# Altium integrated library WE-PD4 SMD Power Inductor.IntLib: 96 symbols
Pins are listed as number, name and electrical type; pins without a type are passive.

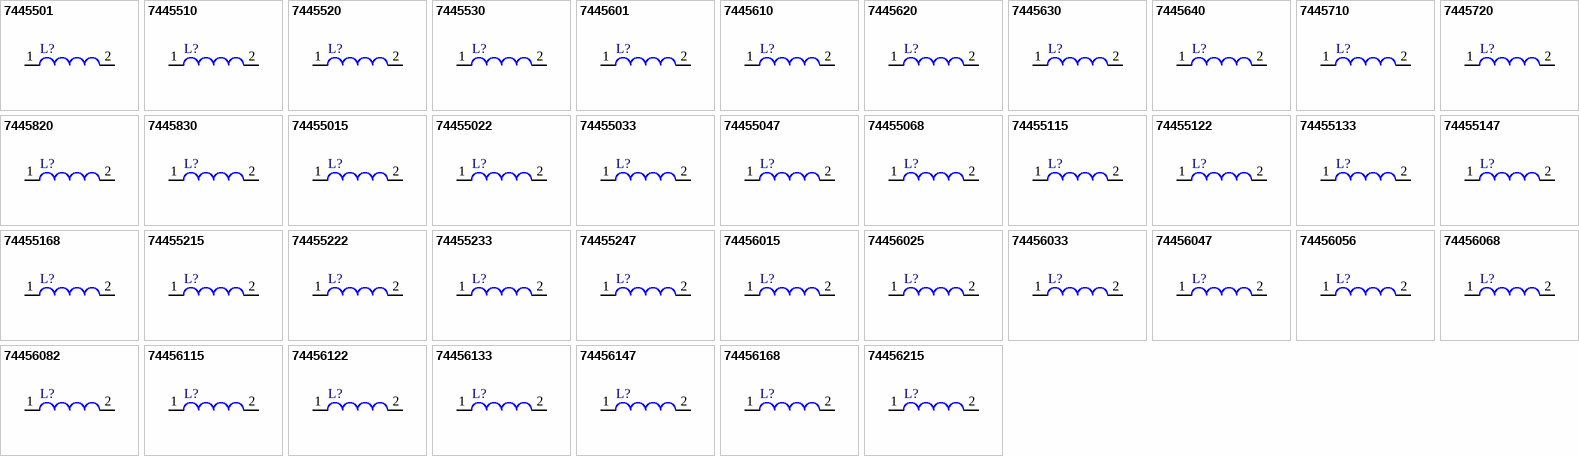
[diagram p0: symbols 7445501 to 74456215]

## 7445501
designator L?
SMD-Power Inductor WE-PD4, L = 1.00 µH; PartNumber: 7445501; Inductance: 1.00 µH; DatasheetVersion: ver 2, Feb-2009; PackageReference: WE-PD4-S; PackageDescription: SMD Inductor, 2-Leads, Body 6.6 x 4.45 mm; ComponentLink1Description: Manufacturer URL; ComponentLink1URL: http://www.we-online.com; ComponentLink2Description: Datasheet; ComponentLink2URL: http://www.we-online.de/katalog/media/pdf/7445501.pdf
footprint WE-PD4-S (SMD Inductor, 2-Leads, Body 6.6x4.45x2.92 mm)
pins: 1, 2

## 7445510
designator L?
SMD-Power Inductor WE-PD4, L = 10.0 µH; PartNumber: 7445510; Inductance: 10.0 µH; DatasheetVersion: ver 2, Feb-2009; PackageReference: WE-PD4-S; PackageDescription: SMD Inductor, 2-Leads, Body 6.6 x 4.45 mm; ComponentLink1Description: Manufacturer URL; ComponentLink1URL: http://www.we-online.com; ComponentLink2Description: Datasheet; ComponentLink2URL: http://www.we-online.de/katalog/media/pdf/7445510.pdf
footprint WE-PD4-S (SMD Inductor, 2-Leads, Body 6.6x4.45x2.92 mm)
pins: 1, 2

## 7445520
designator L?
SMD-Power Inductor WE-PD4, L = 100 µH; PartNumber: 7445520; Inductance: 100 µH; DatasheetVersion: ver 2, Feb-2009; PackageReference: WE-PD4-S; PackageDescription: SMD Inductor, 2-Leads, Body 6.6 x 4.45 mm; ComponentLink1Description: Manufacturer URL; ComponentLink1URL: http://www.we-online.com; ComponentLink2Description: Datasheet; ComponentLink2URL: http://www.we-online.de/katalog/media/pdf/7445520.pdf
footprint WE-PD4-S (SMD Inductor, 2-Leads, Body 6.6x4.45x2.92 mm)
pins: 1, 2

## 7445530
designator L?
SMD-Power Inductor WE-PD4, L = 1000 µH; PartNumber: 7445530; Inductance: 1000 µH; DatasheetVersion: ver 2, Feb-2009; PackageReference: WE-PD4-S; PackageDescription: SMD Inductor, 2-Leads, Body 6.6 x 4.45 mm; ComponentLink1Description: Manufacturer URL; ComponentLink1URL: http://www.we-online.com; ComponentLink2Description: Datasheet; ComponentLink2URL: http://www.we-online.de/katalog/media/pdf/7445530.pdf
footprint WE-PD4-S (SMD Inductor, 2-Leads, Body 6.6x4.45x2.92 mm)
pins: 1, 2

## 7445601
designator L?
SMD-Power Inductor WE-PD4, L = 1.00 µH; PartNumber: 7445601; Inductance: 1.00 µH; DatasheetVersion: ver 2, Sep-2006; PackageReference: WE-PD4-L; PackageDescription: SMD Inductor, 2-Leads, Body 12.7 x 10.0 mm; ComponentLink1Description: Manufacturer URL; ComponentLink1URL: http://www.we-online.com; ComponentLink2Description: Datasheet; ComponentLink2URL: http://www.we-online.de/katalog/media/pdf/7445601.pdf
footprint WE-PD4-L (SMD Inductor, 2-Leads, Body 12.7x10.0x5.3 mm)
pins: 1, 2

## 7445610
designator L?
SMD-Power Inductor WE-PD4, L = 10.0 µH; PartNumber: 7445610; Inductance: 10.0 µH; DatasheetVersion: ver 2, Sep-2006; PackageReference: WE-PD4-L; PackageDescription: SMD Inductor, 2-Leads, Body 12.7 x 10.0 mm; ComponentLink1Description: Manufacturer URL; ComponentLink1URL: http://www.we-online.com; ComponentLink2Description: Datasheet; ComponentLink2URL: http://www.we-online.de/katalog/media/pdf/7445610.pdf
footprint WE-PD4-L (SMD Inductor, 2-Leads, Body 12.7x10.0x5.3 mm)
pins: 1, 2

## 7445620
designator L?
SMD-Power Inductor WE-PD4, L = 100 µH; PartNumber: 7445620; Inductance: 100 µH; DatasheetVersion: ver 2, Sep-2006; PackageReference: WE-PD4-L; PackageDescription: SMD Inductor, 2-Leads, Body 12.7 x 10.0 mm; ComponentLink1Description: Manufacturer URL; ComponentLink1URL: http://www.we-online.com; ComponentLink2Description: Datasheet; ComponentLink2URL: http://www.we-online.de/katalog/media/pdf/7445620.pdf
footprint WE-PD4-L (SMD Inductor, 2-Leads, Body 12.7x10.0x5.3 mm)
pins: 1, 2

## 7445630
designator L?
SMD-Power Inductor WE-PD4, L = 1000 µH; PartNumber: 7445630; Inductance: 1000 µH; DatasheetVersion: ver 2, Sep-2006; PackageReference: WE-PD4-L; PackageDescription: SMD Inductor, 2-Leads, Body 12.7 x 10.0 mm; ComponentLink1Description: Manufacturer URL; ComponentLink1URL: http://www.we-online.com; ComponentLink2Description: Datasheet; ComponentLink2URL: http://www.we-online.de/katalog/media/pdf/7445630.pdf
footprint WE-PD4-L (SMD Inductor, 2-Leads, Body 12.7x10.0x5.3 mm)
pins: 1, 2

## 7445640
designator L?
SMD-Power Inductor WE-PD4, L = 10.0 mH; PartNumber: 7445640; Inductance: 10.0 mH; DatasheetVersion: ver 2, Sep-2006; PackageReference: WE-PD4-L; PackageDescription: SMD Inductor, 2-Leads, Body 12.7 x 10.0 mm; ComponentLink1Description: Manufacturer URL; ComponentLink1URL: http://www.we-online.com; ComponentLink2Description: Datasheet; ComponentLink2URL: http://www.we-online.de/katalog/media/pdf/7445640.pdf
footprint WE-PD4-L (SMD Inductor, 2-Leads, Body 12.7x10.0x5.3 mm)
pins: 1, 2

## 7445710
designator L?
SMD-Power Inductor WE-PD4, L = 10.0 µH; PartNumber: 7445710; Inductance: 10.0 µH; DatasheetVersion: ver 1, Oct-2004; PackageReference: WE-PD4-XL; PackageDescription: SMD Inductor, 2-Leads, Body 22.0 x 15.0 mm; ComponentLink1Description: Manufacturer URL; ComponentLink1URL: http://www.we-online.com; ComponentLink2Description: Datasheet; ComponentLink2URL: http://www.we-online.de/katalog/media/pdf/7445710.pdf
footprint WE-PD4-XL (SMD Inductor, 2-Leads, Body 22.0x15.0x7.8 mm)
pins: 1, 2

## 7445720
designator L?
SMD-Power Inductor WE-PD4, L = 100 µH; PartNumber: 7445720; Inductance: 100 µH; DatasheetVersion: ver 1, Oct-2004; PackageReference: WE-PD4-XL; PackageDescription: SMD Inductor, 2-Leads, Body 22.0 x 15.0 mm; ComponentLink1Description: Manufacturer URL; ComponentLink1URL: http://www.we-online.com; ComponentLink2Description: Datasheet; ComponentLink2URL: http://www.we-online.de/katalog/media/pdf/7445720.pdf
footprint WE-PD4-XL (SMD Inductor, 2-Leads, Body 22.0x15.0x7.8 mm)
pins: 1, 2

## 7445820
designator L?
SMD-Power Inductor WE-PD4, L = 100 µH; PartNumber: 7445820; Inductance: 100 µH; DatasheetVersion: ver 1, Oct-2004; PackageReference: WE-PD4-X; PackageDescription: SMD Inductor, 2-Leads, Body 18.54 x 15.24 mm; ComponentLink1Description: Manufacturer URL; ComponentLink1URL: http://www.we-online.com; ComponentLink2Description: Datasheet; ComponentLink2URL: http://www.we-online.de/katalog/media/pdf/7445820.pdf
footprint WE-PD4-X (SMD Inductor, 2-Leads, Body 18.54x15.24x7.11 mm)
pins: 1, 2

## 7445830
designator L?
SMD-Power Inductor WE-PD4, L = 1000 µH; PartNumber: 7445830; Inductance: 1000 µH; DatasheetVersion: ver 1, Oct-2004; PackageReference: WE-PD4-X; PackageDescription: SMD Inductor, 2-Leads, Body 18.54 x 15.24 mm; ComponentLink1Description: Manufacturer URL; ComponentLink1URL: http://www.we-online.com; ComponentLink2Description: Datasheet; ComponentLink2URL: http://www.we-online.de/katalog/media/pdf/7445830.pdf
footprint WE-PD4-X (SMD Inductor, 2-Leads, Body 18.54x15.24x7.11 mm)
pins: 1, 2

## 74455015
designator L?
SMD-Power Inductor WE-PD4, L = 1.50 µH; PartNumber: 74455015; Inductance: 1.50 µH; DatasheetVersion: ver 2, Feb-2009; PackageReference: WE-PD4-S; PackageDescription: SMD Inductor, 2-Leads, Body 6.6 x 4.45 mm; ComponentLink1Description: Manufacturer URL; ComponentLink1URL: http://www.we-online.com; ComponentLink2Description: Datasheet; ComponentLink2URL: http://www.we-online.de/katalog/media/pdf/74455015.pdf
footprint WE-PD4-S (SMD Inductor, 2-Leads, Body 6.6x4.45x2.92 mm)
pins: 1, 2

## 74455022
designator L?
SMD-Power Inductor WE-PD4, L = 2.20 µH; PartNumber: 74455022; Inductance: 2.20 µH; DatasheetVersion: ver 2, Feb-2009; PackageReference: WE-PD4-S; PackageDescription: SMD Inductor, 2-Leads, Body 6.6 x 4.45 mm; ComponentLink1Description: Manufacturer URL; ComponentLink1URL: http://www.we-online.com; ComponentLink2Description: Datasheet; ComponentLink2URL: http://www.we-online.de/katalog/media/pdf/74455022.pdf
footprint WE-PD4-S (SMD Inductor, 2-Leads, Body 6.6x4.45x2.92 mm)
pins: 1, 2

## 74455033
designator L?
SMD-Power Inductor WE-PD4, L = 3.30 µH; PartNumber: 74455033; Inductance: 3.30 µH; DatasheetVersion: ver 2, Feb-2009; PackageReference: WE-PD4-S; PackageDescription: SMD Inductor, 2-Leads, Body 6.6 x 4.45 mm; ComponentLink1Description: Manufacturer URL; ComponentLink1URL: http://www.we-online.com; ComponentLink2Description: Datasheet; ComponentLink2URL: http://www.we-online.de/katalog/media/pdf/74455033.pdf
footprint WE-PD4-S (SMD Inductor, 2-Leads, Body 6.6x4.45x2.92 mm)
pins: 1, 2

## 74455047
designator L?
SMD-Power Inductor WE-PD4, L = 4.70 µH; PartNumber: 74455047; Inductance: 4.70 µH; DatasheetVersion: ver 2, Feb-2009; PackageReference: WE-PD4-S; PackageDescription: SMD Inductor, 2-Leads, Body 6.6 x 4.45 mm; ComponentLink1Description: Manufacturer URL; ComponentLink1URL: http://www.we-online.com; ComponentLink2Description: Datasheet; ComponentLink2URL: http://www.we-online.de/katalog/media/pdf/74455047.pdf
footprint WE-PD4-S (SMD Inductor, 2-Leads, Body 6.6x4.45x2.92 mm)
pins: 1, 2

## 74455068
designator L?
SMD-Power Inductor WE-PD4, L = 6.80 µH; PartNumber: 74455068; Inductance: 6.80 µH; DatasheetVersion: ver 2, Feb-2009; PackageReference: WE-PD4-S; PackageDescription: SMD Inductor, 2-Leads, Body 6.6 x 4.45 mm; ComponentLink1Description: Manufacturer URL; ComponentLink1URL: http://www.we-online.com; ComponentLink2Description: Datasheet; ComponentLink2URL: http://www.we-online.de/katalog/media/pdf/74455068.pdf
footprint WE-PD4-S (SMD Inductor, 2-Leads, Body 6.6x4.45x2.92 mm)
pins: 1, 2

## 74455115
designator L?
SMD-Power Inductor WE-PD4, L = 15.0 µH; PartNumber: 74455115; Inductance: 15.0 µH; DatasheetVersion: ver 2, Feb-2009; PackageReference: WE-PD4-S; PackageDescription: SMD Inductor, 2-Leads, Body 6.6 x 4.45 mm; ComponentLink1Description: Manufacturer URL; ComponentLink1URL: http://www.we-online.com; ComponentLink2Description: Datasheet; ComponentLink2URL: http://www.we-online.de/katalog/media/pdf/74455115.pdf
footprint WE-PD4-S (SMD Inductor, 2-Leads, Body 6.6x4.45x2.92 mm)
pins: 1, 2

## 74455122
designator L?
SMD-Power Inductor WE-PD4, L = 22.0 µH; PartNumber: 74455122; Inductance: 22.0 µH; DatasheetVersion: ver 2, Feb-2009; PackageReference: WE-PD4-S; PackageDescription: SMD Inductor, 2-Leads, Body 6.6 x 4.45 mm; ComponentLink1Description: Manufacturer URL; ComponentLink1URL: http://www.we-online.com; ComponentLink2Description: Datasheet; ComponentLink2URL: http://www.we-online.de/katalog/media/pdf/74455122.pdf
footprint WE-PD4-S (SMD Inductor, 2-Leads, Body 6.6x4.45x2.92 mm)
pins: 1, 2

## 74455133
designator L?
SMD-Power Inductor WE-PD4, L = 33.0 µH; PartNumber: 74455133; Inductance: 33.0 µH; DatasheetVersion: ver 2, Feb-2009; PackageReference: WE-PD4-S; PackageDescription: SMD Inductor, 2-Leads, Body 6.6 x 4.45 mm; ComponentLink1Description: Manufacturer URL; ComponentLink1URL: http://www.we-online.com; ComponentLink2Description: Datasheet; ComponentLink2URL: http://www.we-online.de/katalog/media/pdf/74455133.pdf
footprint WE-PD4-S (SMD Inductor, 2-Leads, Body 6.6x4.45x2.92 mm)
pins: 1, 2

## 74455147
designator L?
SMD-Power Inductor WE-PD4, L = 47.0 µH; PartNumber: 74455147; Inductance: 47.0 µH; DatasheetVersion: ver 2, Feb-2009; PackageReference: WE-PD4-S; PackageDescription: SMD Inductor, 2-Leads, Body 6.6 x 4.45 mm; ComponentLink1Description: Manufacturer URL; ComponentLink1URL: http://www.we-online.com; ComponentLink2Description: Datasheet; ComponentLink2URL: http://www.we-online.de/katalog/media/pdf/74455147.pdf
footprint WE-PD4-S (SMD Inductor, 2-Leads, Body 6.6x4.45x2.92 mm)
pins: 1, 2

## 74455168
designator L?
SMD-Power Inductor WE-PD4, L = 68.0 µH; PartNumber: 74455168; Inductance: 68.0 µH; DatasheetVersion: ver 2, Feb-2009; PackageReference: WE-PD4-S; PackageDescription: SMD Inductor, 2-Leads, Body 6.6 x 4.45 mm; ComponentLink1Description: Manufacturer URL; ComponentLink1URL: http://www.we-online.com; ComponentLink2Description: Datasheet; ComponentLink2URL: http://www.we-online.de/katalog/media/pdf/74455168.pdf
footprint WE-PD4-S (SMD Inductor, 2-Leads, Body 6.6x4.45x2.92 mm)
pins: 1, 2

## 74455215
designator L?
SMD-Power Inductor WE-PD4, L = 150 µH; PartNumber: 74455215; Inductance: 150 µH; DatasheetVersion: ver 2, Feb-2009; PackageReference: WE-PD4-S; PackageDescription: SMD Inductor, 2-Leads, Body 6.6 x 4.45 mm; ComponentLink1Description: Manufacturer URL; ComponentLink1URL: http://www.we-online.com; ComponentLink2Description: Datasheet; ComponentLink2URL: http://www.we-online.de/katalog/media/pdf/74455215.pdf
footprint WE-PD4-S (SMD Inductor, 2-Leads, Body 6.6x4.45x2.92 mm)
pins: 1, 2

## 74455222
designator L?
SMD-Power Inductor WE-PD4, L = 220 µH; PartNumber: 74455222; Inductance: 220 µH; DatasheetVersion: ver 2, Feb-2009; PackageReference: WE-PD4-S; PackageDescription: SMD Inductor, 2-Leads, Body 6.6 x 4.45 mm; ComponentLink1Description: Manufacturer URL; ComponentLink1URL: http://www.we-online.com; ComponentLink2Description: Datasheet; ComponentLink2URL: http://www.we-online.de/katalog/media/pdf/74455222.pdf
footprint WE-PD4-S (SMD Inductor, 2-Leads, Body 6.6x4.45x2.92 mm)
pins: 1, 2

## 74455233
designator L?
SMD-Power Inductor WE-PD4, L = 330 µH; PartNumber: 74455233; Inductance: 330 µH; DatasheetVersion: ver 2, Feb-2009; PackageReference: WE-PD4-S; PackageDescription: SMD Inductor, 2-Leads, Body 6.6 x 4.45 mm; ComponentLink1Description: Manufacturer URL; ComponentLink1URL: http://www.we-online.com; ComponentLink2Description: Datasheet; ComponentLink2URL: http://www.we-online.de/katalog/media/pdf/74455233.pdf
footprint WE-PD4-S (SMD Inductor, 2-Leads, Body 6.6x4.45x2.92 mm)
pins: 1, 2

## 74455247
designator L?
SMD-Power Inductor WE-PD4, L = 470 µH; PartNumber: 74455247; Inductance: 470 µH; DatasheetVersion: ver 2, Feb-2009; PackageReference: WE-PD4-S; PackageDescription: SMD Inductor, 2-Leads, Body 6.6 x 4.45 mm; ComponentLink1Description: Manufacturer URL; ComponentLink1URL: http://www.we-online.com; ComponentLink2Description: Datasheet; ComponentLink2URL: http://www.we-online.de/katalog/media/pdf/74455247.pdf
footprint WE-PD4-S (SMD Inductor, 2-Leads, Body 6.6x4.45x2.92 mm)
pins: 1, 2

## 74456015
designator L?
SMD-Power Inductor WE-PD4, L = 1.50 µH; PartNumber: 74456015; Inductance: 1.50 µH; DatasheetVersion: ver 2, Sep-2006; PackageReference: WE-PD4-L; PackageDescription: SMD Inductor, 2-Leads, Body 12.7 x 10.0 mm; ComponentLink1Description: Manufacturer URL; ComponentLink1URL: http://www.we-online.com; ComponentLink2Description: Datasheet; ComponentLink2URL: http://www.we-online.de/katalog/media/pdf/74456015.pdf
footprint WE-PD4-L (SMD Inductor, 2-Leads, Body 12.7x10.0x5.3 mm)
pins: 1, 2

## 74456025
designator L?
SMD-Power Inductor WE-PD4, L = 2.50 µH; PartNumber: 74456025; Inductance: 2.50 µH; DatasheetVersion: ver 2, Sep-2006; PackageReference: WE-PD4-L; PackageDescription: SMD Inductor, 2-Leads, Body 12.7 x 10.0 mm; ComponentLink1Description: Manufacturer URL; ComponentLink1URL: http://www.we-online.com; ComponentLink2Description: Datasheet; ComponentLink2URL: http://www.we-online.de/katalog/media/pdf/74456025.pdf
footprint WE-PD4-L (SMD Inductor, 2-Leads, Body 12.7x10.0x5.3 mm)
pins: 1, 2

## 74456033
designator L?
SMD-Power Inductor WE-PD4, L = 3.30 µH; PartNumber: 74456033; Inductance: 3.30 µH; DatasheetVersion: ver 2, Sep-2006; PackageReference: WE-PD4-L; PackageDescription: SMD Inductor, 2-Leads, Body 12.7 x 10.0 mm; ComponentLink1Description: Manufacturer URL; ComponentLink1URL: http://www.we-online.com; ComponentLink2Description: Datasheet; ComponentLink2URL: http://www.we-online.de/katalog/media/pdf/74456033.pdf
footprint WE-PD4-L (SMD Inductor, 2-Leads, Body 12.7x10.0x5.3 mm)
pins: 1, 2

## 74456047
designator L?
SMD-Power Inductor WE-PD4, L = 4.70 µH; PartNumber: 74456047; Inductance: 4.70 µH; DatasheetVersion: ver 2, Sep-2006; PackageReference: WE-PD4-L; PackageDescription: SMD Inductor, 2-Leads, Body 12.7 x 10.0 mm; ComponentLink1Description: Manufacturer URL; ComponentLink1URL: http://www.we-online.com; ComponentLink2Description: Datasheet; ComponentLink2URL: http://www.we-online.de/katalog/media/pdf/74456047.pdf
footprint WE-PD4-L (SMD Inductor, 2-Leads, Body 12.7x10.0x5.3 mm)
pins: 1, 2

## 74456056
designator L?
SMD-Power Inductor WE-PD4, L = 5.60 µH; PartNumber: 74456056; Inductance: 5.60 µH; DatasheetVersion: ver 2, Sep-2006; PackageReference: WE-PD4-L; PackageDescription: SMD Inductor, 2-Leads, Body 12.7 x 10.0 mm; ComponentLink1Description: Manufacturer URL; ComponentLink1URL: http://www.we-online.com; ComponentLink2Description: Datasheet; ComponentLink2URL: http://www.we-online.de/katalog/media/pdf/74456056.pdf
footprint WE-PD4-L (SMD Inductor, 2-Leads, Body 12.7x10.0x5.3 mm)
pins: 1, 2

## 74456068
designator L?
SMD-Power Inductor WE-PD4, L = 6.80 µH; PartNumber: 74456068; Inductance: 6.80 µH; DatasheetVersion: ver 2, Sep-2006; PackageReference: WE-PD4-L; PackageDescription: SMD Inductor, 2-Leads, Body 12.7 x 10.0 mm; ComponentLink1Description: Manufacturer URL; ComponentLink1URL: http://www.we-online.com; ComponentLink2Description: Datasheet; ComponentLink2URL: http://www.we-online.de/katalog/media/pdf/74456068.pdf
footprint WE-PD4-L (SMD Inductor, 2-Leads, Body 12.7x10.0x5.3 mm)
pins: 1, 2

## 74456082
designator L?
SMD-Power Inductor WE-PD4, L = 8.20 µH; PartNumber: 74456082; Inductance: 8.20 µH; DatasheetVersion: ver 2, Sep-2006; PackageReference: WE-PD4-L; PackageDescription: SMD Inductor, 2-Leads, Body 12.7 x 10.0 mm; ComponentLink1Description: Manufacturer URL; ComponentLink1URL: http://www.we-online.com; ComponentLink2Description: Datasheet; ComponentLink2URL: http://www.we-online.de/katalog/media/pdf/74456082.pdf
footprint WE-PD4-L (SMD Inductor, 2-Leads, Body 12.7x10.0x5.3 mm)
pins: 1, 2

## 74456115
designator L?
SMD-Power Inductor WE-PD4, L = 15.0 µH; PartNumber: 74456115; Inductance: 15.0 µH; DatasheetVersion: ver 2, Sep-2006; PackageReference: WE-PD4-L; PackageDescription: SMD Inductor, 2-Leads, Body 12.7 x 10.0 mm; ComponentLink1Description: Manufacturer URL; ComponentLink1URL: http://www.we-online.com; ComponentLink2Description: Datasheet; ComponentLink2URL: http://www.we-online.de/katalog/media/pdf/74456115.pdf
footprint WE-PD4-L (SMD Inductor, 2-Leads, Body 12.7x10.0x5.3 mm)
pins: 1, 2

## 74456122
designator L?
SMD-Power Inductor WE-PD4, L = 22.0 µH; PartNumber: 74456122; Inductance: 22.0 µH; DatasheetVersion: ver 2, Sep-2006; PackageReference: WE-PD4-L; PackageDescription: SMD Inductor, 2-Leads, Body 12.7 x 10.0 mm; ComponentLink1Description: Manufacturer URL; ComponentLink1URL: http://www.we-online.com; ComponentLink2Description: Datasheet; ComponentLink2URL: http://www.we-online.de/katalog/media/pdf/74456122.pdf
footprint WE-PD4-L (SMD Inductor, 2-Leads, Body 12.7x10.0x5.3 mm)
pins: 1, 2

## 74456133
designator L?
SMD-Power Inductor WE-PD4, L = 33.0 µH; PartNumber: 74456133; Inductance: 33.0 µH; DatasheetVersion: ver 2, Sep-2006; PackageReference: WE-PD4-L; PackageDescription: SMD Inductor, 2-Leads, Body 12.7 x 10.0 mm; ComponentLink1Description: Manufacturer URL; ComponentLink1URL: http://www.we-online.com; ComponentLink2Description: Datasheet; ComponentLink2URL: http://www.we-online.de/katalog/media/pdf/74456133.pdf
footprint WE-PD4-L (SMD Inductor, 2-Leads, Body 12.7x10.0x5.3 mm)
pins: 1, 2

## 74456147
designator L?
SMD-Power Inductor WE-PD4, L = 47.0 µH; PartNumber: 74456147; Inductance: 47.0 µH; DatasheetVersion: ver 2, Sep-2006; PackageReference: WE-PD4-L; PackageDescription: SMD Inductor, 2-Leads, Body 12.7 x 10.0 mm; ComponentLink1Description: Manufacturer URL; ComponentLink1URL: http://www.we-online.com; ComponentLink2Description: Datasheet; ComponentLink2URL: http://www.we-online.de/katalog/media/pdf/74456147.pdf
footprint WE-PD4-L (SMD Inductor, 2-Leads, Body 12.7x10.0x5.3 mm)
pins: 1, 2

## 74456168
designator L?
SMD-Power Inductor WE-PD4, L = 68.0 µH; PartNumber: 74456168; Inductance: 68.0 µH; DatasheetVersion: ver 2, Sep-2006; PackageReference: WE-PD4-L; PackageDescription: SMD Inductor, 2-Leads, Body 12.7 x 10.0 mm; ComponentLink1Description: Manufacturer URL; ComponentLink1URL: http://www.we-online.com; ComponentLink2Description: Datasheet; ComponentLink2URL: http://www.we-online.de/katalog/media/pdf/74456168.pdf
footprint WE-PD4-L (SMD Inductor, 2-Leads, Body 12.7x10.0x5.3 mm)
pins: 1, 2

## 74456215
designator L?
SMD-Power Inductor WE-PD4, L = 150 µH; PartNumber: 74456215; Inductance: 150 µH; DatasheetVersion: ver 2, Sep-2006; PackageReference: WE-PD4-L; PackageDescription: SMD Inductor, 2-Leads, Body 12.7 x 10.0 mm; ComponentLink1Description: Manufacturer URL; ComponentLink1URL: http://www.we-online.com; ComponentLink2Description: Datasheet; ComponentLink2URL: http://www.we-online.de/katalog/media/pdf/74456215.pdf
footprint WE-PD4-L (SMD Inductor, 2-Leads, Body 12.7x10.0x5.3 mm)
pins: 1, 2

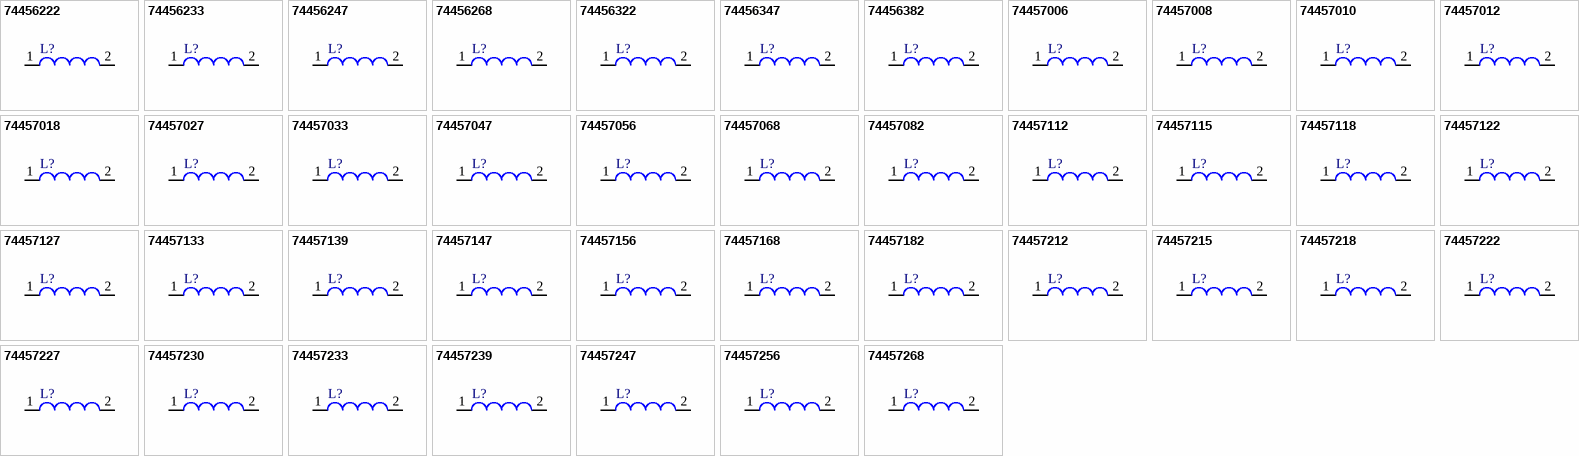
[diagram p1: symbols 74456222 to 74457268]

## 74456222
designator L?
SMD-Power Inductor WE-PD4, L = 220 µH; PartNumber: 74456222; Inductance: 220 µH; DatasheetVersion: ver 2, Sep-2006; PackageReference: WE-PD4-L; PackageDescription: SMD Inductor, 2-Leads, Body 12.7 x 10.0 mm; ComponentLink1Description: Manufacturer URL; ComponentLink1URL: http://www.we-online.com; ComponentLink2Description: Datasheet; ComponentLink2URL: http://www.we-online.de/katalog/media/pdf/74456222.pdf
footprint WE-PD4-L (SMD Inductor, 2-Leads, Body 12.7x10.0x5.3 mm)
pins: 1, 2

## 74456233
designator L?
SMD-Power Inductor WE-PD4, L = 330 µH; PartNumber: 74456233; Inductance: 330 µH; DatasheetVersion: ver 2, Sep-2006; PackageReference: WE-PD4-L; PackageDescription: SMD Inductor, 2-Leads, Body 12.7 x 10.0 mm; ComponentLink1Description: Manufacturer URL; ComponentLink1URL: http://www.we-online.com; ComponentLink2Description: Datasheet; ComponentLink2URL: http://www.we-online.de/katalog/media/pdf/74456233.pdf
footprint WE-PD4-L (SMD Inductor, 2-Leads, Body 12.7x10.0x5.3 mm)
pins: 1, 2

## 74456247
designator L?
SMD-Power Inductor WE-PD4, L = 470 µH; PartNumber: 74456247; Inductance: 470 µH; DatasheetVersion: ver 2, Sep-2006; PackageReference: WE-PD4-L; PackageDescription: SMD Inductor, 2-Leads, Body 12.7 x 10.0 mm; ComponentLink1Description: Manufacturer URL; ComponentLink1URL: http://www.we-online.com; ComponentLink2Description: Datasheet; ComponentLink2URL: http://www.we-online.de/katalog/media/pdf/74456247.pdf
footprint WE-PD4-L (SMD Inductor, 2-Leads, Body 12.7x10.0x5.3 mm)
pins: 1, 2

## 74456268
designator L?
SMD-Power Inductor WE-PD4, L = 680 µH; PartNumber: 74456268; Inductance: 680 µH; DatasheetVersion: ver 2, Sep-2006; PackageReference: WE-PD4-L; PackageDescription: SMD Inductor, 2-Leads, Body 12.7 x 10.0 mm; ComponentLink1Description: Manufacturer URL; ComponentLink1URL: http://www.we-online.com; ComponentLink2Description: Datasheet; ComponentLink2URL: http://www.we-online.de/katalog/media/pdf/74456268.pdf
footprint WE-PD4-L (SMD Inductor, 2-Leads, Body 12.7x10.0x5.3 mm)
pins: 1, 2

## 74456322
designator L?
SMD-Power Inductor WE-PD4, L = 2200 µH; PartNumber: 74456322; Inductance: 2200 µH; DatasheetVersion: ver 2, Sep-2006; PackageReference: WE-PD4-L; PackageDescription: SMD Inductor, 2-Leads, Body 12.7 x 10.0 mm; ComponentLink1Description: Manufacturer URL; ComponentLink1URL: http://www.we-online.com; ComponentLink2Description: Datasheet; ComponentLink2URL: http://www.we-online.de/katalog/media/pdf/74456322.pdf
footprint WE-PD4-L (SMD Inductor, 2-Leads, Body 12.7x10.0x5.3 mm)
pins: 1, 2

## 74456347
designator L?
SMD-Power Inductor WE-PD4, L = 4700 µH; PartNumber: 74456347; Inductance: 4700 µH; DatasheetVersion: ver 2, Sep-2006; PackageReference: WE-PD4-L; PackageDescription: SMD Inductor, 2-Leads, Body 12.7 x 10.0 mm; ComponentLink1Description: Manufacturer URL; ComponentLink1URL: http://www.we-online.com; ComponentLink2Description: Datasheet; ComponentLink2URL: http://www.we-online.de/katalog/media/pdf/74456347.pdf
footprint WE-PD4-L (SMD Inductor, 2-Leads, Body 12.7x10.0x5.3 mm)
pins: 1, 2

## 74456382
designator L?
SMD-Power Inductor WE-PD4, L = 8200 µH; PartNumber: 74456382; Inductance: 8200 µH; DatasheetVersion: ver 2, Sep-2006; PackageReference: WE-PD4-L; PackageDescription: SMD Inductor, 2-Leads, Body 12.7 x 10.0 mm; ComponentLink1Description: Manufacturer URL; ComponentLink1URL: http://www.we-online.com; ComponentLink2Description: Datasheet; ComponentLink2URL: http://www.we-online.de/katalog/media/pdf/74456382.pdf
footprint WE-PD4-L (SMD Inductor, 2-Leads, Body 12.7x10.0x5.3 mm)
pins: 1, 2

## 74457006
designator L?
SMD-Power Inductor WE-PD4, L = 0.47 µH; PartNumber: 74457006; Inductance: 0.47 µH; DatasheetVersion: ver 1, Oct-2004; PackageReference: WE-PD4-XL; PackageDescription: SMD Inductor, 2-Leads, Body 22.0 x 15.0 mm; ComponentLink1Description: Manufacturer URL; ComponentLink1URL: http://www.we-online.com; ComponentLink2Description: Datasheet; ComponentLink2URL: http://www.we-online.de/katalog/media/pdf/74457006.pdf
footprint WE-PD4-XL (SMD Inductor, 2-Leads, Body 22.0x15.0x7.8 mm)
pins: 1, 2

## 74457008
designator L?
SMD-Power Inductor WE-PD4, L = 0.80 µH; PartNumber: 74457008; Inductance: 0.80 µH; DatasheetVersion: ver 1, Oct-2004; PackageReference: WE-PD4-XL; PackageDescription: SMD Inductor, 2-Leads, Body 22.0 x 15.0 mm; ComponentLink1Description: Manufacturer URL; ComponentLink1URL: http://www.we-online.com; ComponentLink2Description: Datasheet; ComponentLink2URL: http://www.we-online.de/katalog/media/pdf/74457008.pdf
footprint WE-PD4-XL (SMD Inductor, 2-Leads, Body 22.0x15.0x7.8 mm)
pins: 1, 2

## 74457010
designator L?
SMD-Power Inductor WE-PD4, L = 1.00 µH; PartNumber: 74457010; Inductance: 1.00 µH; DatasheetVersion: ver 1, Oct-2004; PackageReference: WE-PD4-XL; PackageDescription: SMD Inductor, 2-Leads, Body 22.0 x 15.0 mm; ComponentLink1Description: Manufacturer URL; ComponentLink1URL: http://www.we-online.com; ComponentLink2Description: Datasheet; ComponentLink2URL: http://www.we-online.de/katalog/media/pdf/74457010.pdf
footprint WE-PD4-XL (SMD Inductor, 2-Leads, Body 22.0x15.0x7.8 mm)
pins: 1, 2

## 74457012
designator L?
SMD-Power Inductor WE-PD4, L = 1.20 µH; PartNumber: 74457012; Inductance: 1.20 µH; DatasheetVersion: ver 1, Oct-2004; PackageReference: WE-PD4-XL; PackageDescription: SMD Inductor, 2-Leads, Body 22.0 x 15.0 mm; ComponentLink1Description: Manufacturer URL; ComponentLink1URL: http://www.we-online.com; ComponentLink2Description: Datasheet; ComponentLink2URL: http://www.we-online.de/katalog/media/pdf/74457012.pdf
footprint WE-PD4-XL (SMD Inductor, 2-Leads, Body 22.0x15.0x7.8 mm)
pins: 1, 2

## 74457018
designator L?
SMD-Power Inductor WE-PD4, L = 1.80 µH; PartNumber: 74457018; Inductance: 1.80 µH; DatasheetVersion: ver 1, Oct-2004; PackageReference: WE-PD4-XL; PackageDescription: SMD Inductor, 2-Leads, Body 22.0 x 15.0 mm; ComponentLink1Description: Manufacturer URL; ComponentLink1URL: http://www.we-online.com; ComponentLink2Description: Datasheet; ComponentLink2URL: http://www.we-online.de/katalog/media/pdf/74457018.pdf
footprint WE-PD4-XL (SMD Inductor, 2-Leads, Body 22.0x15.0x7.8 mm)
pins: 1, 2

## 74457027
designator L?
SMD-Power Inductor WE-PD4, L = 2.70 µH; PartNumber: 74457027; Inductance: 2.70 µH; DatasheetVersion: ver 1, Oct-2004; PackageReference: WE-PD4-XL; PackageDescription: SMD Inductor, 2-Leads, Body 22.0 x 15.0 mm; ComponentLink1Description: Manufacturer URL; ComponentLink1URL: http://www.we-online.com; ComponentLink2Description: Datasheet; ComponentLink2URL: http://www.we-online.de/katalog/media/pdf/74457027.pdf
footprint WE-PD4-XL (SMD Inductor, 2-Leads, Body 22.0x15.0x7.8 mm)
pins: 1, 2

## 74457033
designator L?
SMD-Power Inductor WE-PD4, L = 3.30 µH; PartNumber: 74457033; Inductance: 3.30 µH; DatasheetVersion: ver 1, Oct-2004; PackageReference: WE-PD4-XL; PackageDescription: SMD Inductor, 2-Leads, Body 22.0 x 15.0 mm; ComponentLink1Description: Manufacturer URL; ComponentLink1URL: http://www.we-online.com; ComponentLink2Description: Datasheet; ComponentLink2URL: http://www.we-online.de/katalog/media/pdf/74457033.pdf
footprint WE-PD4-XL (SMD Inductor, 2-Leads, Body 22.0x15.0x7.8 mm)
pins: 1, 2

## 74457047
designator L?
SMD-Power Inductor WE-PD4, L = 4.70 µH; PartNumber: 74457047; Inductance: 4.70 µH; DatasheetVersion: ver 1, Oct-2004; PackageReference: WE-PD4-XL; PackageDescription: SMD Inductor, 2-Leads, Body 22.0 x 15.0 mm; ComponentLink1Description: Manufacturer URL; ComponentLink1URL: http://www.we-online.com; ComponentLink2Description: Datasheet; ComponentLink2URL: http://www.we-online.de/katalog/media/pdf/74457047.pdf
footprint WE-PD4-XL (SMD Inductor, 2-Leads, Body 22.0x15.0x7.8 mm)
pins: 1, 2

## 74457056
designator L?
SMD-Power Inductor WE-PD4, L = 5.60 µH; PartNumber: 74457056; Inductance: 5.60 µH; DatasheetVersion: ver 1, Oct-2004; PackageReference: WE-PD4-XL; PackageDescription: SMD Inductor, 2-Leads, Body 22.0 x 15.0 mm; ComponentLink1Description: Manufacturer URL; ComponentLink1URL: http://www.we-online.com; ComponentLink2Description: Datasheet; ComponentLink2URL: http://www.we-online.de/katalog/media/pdf/74457056.pdf
footprint WE-PD4-XL (SMD Inductor, 2-Leads, Body 22.0x15.0x7.8 mm)
pins: 1, 2

## 74457068
designator L?
SMD-Power Inductor WE-PD4, L = 6.80 µH; PartNumber: 74457068; Inductance: 6.80 µH; DatasheetVersion: ver 1, Oct-2004; PackageReference: WE-PD4-XL; PackageDescription: SMD Inductor, 2-Leads, Body 22.0 x 15.0 mm; ComponentLink1Description: Manufacturer URL; ComponentLink1URL: http://www.we-online.com; ComponentLink2Description: Datasheet; ComponentLink2URL: http://www.we-online.de/katalog/media/pdf/74457068.pdf
footprint WE-PD4-XL (SMD Inductor, 2-Leads, Body 22.0x15.0x7.8 mm)
pins: 1, 2

## 74457082
designator L?
SMD-Power Inductor WE-PD4, L = 8.20 µH; PartNumber: 74457082; Inductance: 8.20 µH; DatasheetVersion: ver 1, Oct-2004; PackageReference: WE-PD4-XL; PackageDescription: SMD Inductor, 2-Leads, Body 22.0 x 15.0 mm; ComponentLink1Description: Manufacturer URL; ComponentLink1URL: http://www.we-online.com; ComponentLink2Description: Datasheet; ComponentLink2URL: http://www.we-online.de/katalog/media/pdf/74457082.pdf
footprint WE-PD4-XL (SMD Inductor, 2-Leads, Body 22.0x15.0x7.8 mm)
pins: 1, 2

## 74457112
designator L?
SMD-Power Inductor WE-PD4, L = 12.0 µH; PartNumber: 74457112; Inductance: 12.0 µH; DatasheetVersion: ver 1, Oct-2004; PackageReference: WE-PD4-XL; PackageDescription: SMD Inductor, 2-Leads, Body 22.0 x 15.0 mm; ComponentLink1Description: Manufacturer URL; ComponentLink1URL: http://www.we-online.com; ComponentLink2Description: Datasheet; ComponentLink2URL: http://www.we-online.de/katalog/media/pdf/74457112.pdf
footprint WE-PD4-XL (SMD Inductor, 2-Leads, Body 22.0x15.0x7.8 mm)
pins: 1, 2

## 74457115
designator L?
SMD-Power Inductor WE-PD4, L = 15.0 µH; PartNumber: 74457115; Inductance: 15.0 µH; DatasheetVersion: ver 1, Oct-2004; PackageReference: WE-PD4-XL; PackageDescription: SMD Inductor, 2-Leads, Body 22.0 x 15.0 mm; ComponentLink1Description: Manufacturer URL; ComponentLink1URL: http://www.we-online.com; ComponentLink2Description: Datasheet; ComponentLink2URL: http://www.we-online.de/katalog/media/pdf/74457115.pdf
footprint WE-PD4-XL (SMD Inductor, 2-Leads, Body 22.0x15.0x7.8 mm)
pins: 1, 2

## 74457118
designator L?
SMD-Power Inductor WE-PD4, L = 18.0 µH; PartNumber: 74457118; Inductance: 18.0 µH; DatasheetVersion: ver 1, Oct-2004; PackageReference: WE-PD4-XL; PackageDescription: SMD Inductor, 2-Leads, Body 22.0 x 15.0 mm; ComponentLink1Description: Manufacturer URL; ComponentLink1URL: http://www.we-online.com; ComponentLink2Description: Datasheet; ComponentLink2URL: http://www.we-online.de/katalog/media/pdf/74457118.pdf
footprint WE-PD4-XL (SMD Inductor, 2-Leads, Body 22.0x15.0x7.8 mm)
pins: 1, 2

## 74457122
designator L?
SMD-Power Inductor WE-PD4, L = 22.0 µH; PartNumber: 74457122; Inductance: 22.0 µH; DatasheetVersion: ver 1, Oct-2004; PackageReference: WE-PD4-XL; PackageDescription: SMD Inductor, 2-Leads, Body 22.0 x 15.0 mm; ComponentLink1Description: Manufacturer URL; ComponentLink1URL: http://www.we-online.com; ComponentLink2Description: Datasheet; ComponentLink2URL: http://www.we-online.de/katalog/media/pdf/74457122.pdf
footprint WE-PD4-XL (SMD Inductor, 2-Leads, Body 22.0x15.0x7.8 mm)
pins: 1, 2

## 74457127
designator L?
SMD-Power Inductor WE-PD4, L = 27.0 µH; PartNumber: 74457127; Inductance: 27.0 µH; DatasheetVersion: ver 1, Oct-2004; PackageReference: WE-PD4-XL; PackageDescription: SMD Inductor, 2-Leads, Body 22.0 x 15.0 mm; ComponentLink1Description: Manufacturer URL; ComponentLink1URL: http://www.we-online.com; ComponentLink2Description: Datasheet; ComponentLink2URL: http://www.we-online.de/katalog/media/pdf/74457127.pdf
footprint WE-PD4-XL (SMD Inductor, 2-Leads, Body 22.0x15.0x7.8 mm)
pins: 1, 2

## 74457133
designator L?
SMD-Power Inductor WE-PD4, L = 33.0 µH; PartNumber: 74457133; Inductance: 33.0 µH; DatasheetVersion: ver 1, Oct-2004; PackageReference: WE-PD4-XL; PackageDescription: SMD Inductor, 2-Leads, Body 22.0 x 15.0 mm; ComponentLink1Description: Manufacturer URL; ComponentLink1URL: http://www.we-online.com; ComponentLink2Description: Datasheet; ComponentLink2URL: http://www.we-online.de/katalog/media/pdf/74457133.pdf
footprint WE-PD4-XL (SMD Inductor, 2-Leads, Body 22.0x15.0x7.8 mm)
pins: 1, 2

## 74457139
designator L?
SMD-Power Inductor WE-PD4, L = 39.0 µH; PartNumber: 74457139; Inductance: 39.0 µH; DatasheetVersion: ver 1, Oct-2004; PackageReference: WE-PD4-XL; PackageDescription: SMD Inductor, 2-Leads, Body 22.0 x 15.0 mm; ComponentLink1Description: Manufacturer URL; ComponentLink1URL: http://www.we-online.com; ComponentLink2Description: Datasheet; ComponentLink2URL: http://www.we-online.de/katalog/media/pdf/74457139.pdf
footprint WE-PD4-XL (SMD Inductor, 2-Leads, Body 22.0x15.0x7.8 mm)
pins: 1, 2

## 74457147
designator L?
SMD-Power Inductor WE-PD4, L = 47.0 µH; PartNumber: 74457147; Inductance: 47.0 µH; DatasheetVersion: ver 1, Oct-2004; PackageReference: WE-PD4-XL; PackageDescription: SMD Inductor, 2-Leads, Body 22.0 x 15.0 mm; ComponentLink1Description: Manufacturer URL; ComponentLink1URL: http://www.we-online.com; ComponentLink2Description: Datasheet; ComponentLink2URL: http://www.we-online.de/katalog/media/pdf/74457147.pdf
footprint WE-PD4-XL (SMD Inductor, 2-Leads, Body 22.0x15.0x7.8 mm)
pins: 1, 2

## 74457156
designator L?
SMD-Power Inductor WE-PD4, L = 56.0 µH; PartNumber: 74457156; Inductance: 56.0 µH; DatasheetVersion: ver 1, Oct-2004; PackageReference: WE-PD4-XL; PackageDescription: SMD Inductor, 2-Leads, Body 22.0 x 15.0 mm; ComponentLink1Description: Manufacturer URL; ComponentLink1URL: http://www.we-online.com; ComponentLink2Description: Datasheet; ComponentLink2URL: http://www.we-online.de/katalog/media/pdf/74457156.pdf
footprint WE-PD4-XL (SMD Inductor, 2-Leads, Body 22.0x15.0x7.8 mm)
pins: 1, 2

## 74457168
designator L?
SMD-Power Inductor WE-PD4, L = 68.0 µH; PartNumber: 74457168; Inductance: 68.0 µH; DatasheetVersion: ver 1, Oct-2004; PackageReference: WE-PD4-XL; PackageDescription: SMD Inductor, 2-Leads, Body 22.0 x 15.0 mm; ComponentLink1Description: Manufacturer URL; ComponentLink1URL: http://www.we-online.com; ComponentLink2Description: Datasheet; ComponentLink2URL: http://www.we-online.de/katalog/media/pdf/74457168.pdf
footprint WE-PD4-XL (SMD Inductor, 2-Leads, Body 22.0x15.0x7.8 mm)
pins: 1, 2

## 74457182
designator L?
SMD-Power Inductor WE-PD4, L = 82.0 µH; PartNumber: 74457182; Inductance: 82.0 µH; DatasheetVersion: ver 1, Oct-2004; PackageReference: WE-PD4-XL; PackageDescription: SMD Inductor, 2-Leads, Body 22.0 x 15.0 mm; ComponentLink1Description: Manufacturer URL; ComponentLink1URL: http://www.we-online.com; ComponentLink2Description: Datasheet; ComponentLink2URL: http://www.we-online.de/katalog/media/pdf/74457182.pdf
footprint WE-PD4-XL (SMD Inductor, 2-Leads, Body 22.0x15.0x7.8 mm)
pins: 1, 2

## 74457212
designator L?
SMD-Power Inductor WE-PD4, L = 120 µH; PartNumber: 74457212; Inductance: 120 µH; DatasheetVersion: ver 1, Oct-2004; PackageReference: WE-PD4-XL; PackageDescription: SMD Inductor, 2-Leads, Body 22.0 x 15.0 mm; ComponentLink1Description: Manufacturer URL; ComponentLink1URL: http://www.we-online.com; ComponentLink2Description: Datasheet; ComponentLink2URL: http://www.we-online.de/katalog/media/pdf/74457212.pdf
footprint WE-PD4-XL (SMD Inductor, 2-Leads, Body 22.0x15.0x7.8 mm)
pins: 1, 2

## 74457215
designator L?
SMD-Power Inductor WE-PD4, L = 150 µH; PartNumber: 74457215; Inductance: 150 µH; DatasheetVersion: ver 1, Oct-2004; PackageReference: WE-PD4-XL; PackageDescription: SMD Inductor, 2-Leads, Body 22.0 x 15.0 mm; ComponentLink1Description: Manufacturer URL; ComponentLink1URL: http://www.we-online.com; ComponentLink2Description: Datasheet; ComponentLink2URL: http://www.we-online.de/katalog/media/pdf/74457215.pdf
footprint WE-PD4-XL (SMD Inductor, 2-Leads, Body 22.0x15.0x7.8 mm)
pins: 1, 2

## 74457218
designator L?
SMD-Power Inductor WE-PD4, L = 180 µH; PartNumber: 74457218; Inductance: 180 µH; DatasheetVersion: ver 1, Oct-2004; PackageReference: WE-PD4-XL; PackageDescription: SMD Inductor, 2-Leads, Body 22.0 x 15.0 mm; ComponentLink1Description: Manufacturer URL; ComponentLink1URL: http://www.we-online.com; ComponentLink2Description: Datasheet; ComponentLink2URL: http://www.we-online.de/katalog/media/pdf/74457218.pdf
footprint WE-PD4-XL (SMD Inductor, 2-Leads, Body 22.0x15.0x7.8 mm)
pins: 1, 2

## 74457222
designator L?
SMD-Power Inductor WE-PD4, L = 220 µH; PartNumber: 74457222; Inductance: 220 µH; DatasheetVersion: ver 1, Oct-2004; PackageReference: WE-PD4-XL; PackageDescription: SMD Inductor, 2-Leads, Body 22.0 x 15.0 mm; ComponentLink1Description: Manufacturer URL; ComponentLink1URL: http://www.we-online.com; ComponentLink2Description: Datasheet; ComponentLink2URL: http://www.we-online.de/katalog/media/pdf/74457222.pdf
footprint WE-PD4-XL (SMD Inductor, 2-Leads, Body 22.0x15.0x7.8 mm)
pins: 1, 2

## 74457227
designator L?
SMD-Power Inductor WE-PD4, L = 270 µH; PartNumber: 74457227; Inductance: 270 µH; DatasheetVersion: ver 1, Oct-2004; PackageReference: WE-PD4-XL; PackageDescription: SMD Inductor, 2-Leads, Body 22.0 x 15.0 mm; ComponentLink1Description: Manufacturer URL; ComponentLink1URL: http://www.we-online.com; ComponentLink2Description: Datasheet; ComponentLink2URL: http://www.we-online.de/katalog/media/pdf/74457227.pdf
footprint WE-PD4-XL (SMD Inductor, 2-Leads, Body 22.0x15.0x7.8 mm)
pins: 1, 2

## 74457230
designator L?
SMD-Power Inductor WE-PD4, L = 1000 µH; PartNumber: 74457230; Inductance: 1000 µH; DatasheetVersion: ver 1, Oct-2004; PackageReference: WE-PD4-XL; PackageDescription: SMD Inductor, 2-Leads, Body 22.0 x 15.0 mm; ComponentLink1Description: Manufacturer URL; ComponentLink1URL: http://www.we-online.com; ComponentLink2Description: Datasheet; ComponentLink2URL: http://www.we-online.de/katalog/media/pdf/74457230.pdf
footprint WE-PD4-XL (SMD Inductor, 2-Leads, Body 22.0x15.0x7.8 mm)
pins: 1, 2

## 74457233
designator L?
SMD-Power Inductor WE-PD4, L = 330 µH; PartNumber: 74457233; Inductance: 330 µH; DatasheetVersion: ver 1, Oct-2004; PackageReference: WE-PD4-XL; PackageDescription: SMD Inductor, 2-Leads, Body 22.0 x 15.0 mm; ComponentLink1Description: Manufacturer URL; ComponentLink1URL: http://www.we-online.com; ComponentLink2Description: Datasheet; ComponentLink2URL: http://www.we-online.de/katalog/media/pdf/74457233.pdf
footprint WE-PD4-XL (SMD Inductor, 2-Leads, Body 22.0x15.0x7.8 mm)
pins: 1, 2

## 74457239
designator L?
SMD-Power Inductor WE-PD4, L = 390 µH; PartNumber: 74457239; Inductance: 390 µH; DatasheetVersion: ver 1, Oct-2004; PackageReference: WE-PD4-XL; PackageDescription: SMD Inductor, 2-Leads, Body 22.0 x 15.0 mm; ComponentLink1Description: Manufacturer URL; ComponentLink1URL: http://www.we-online.com; ComponentLink2Description: Datasheet; ComponentLink2URL: http://www.we-online.de/katalog/media/pdf/74457239.pdf
footprint WE-PD4-XL (SMD Inductor, 2-Leads, Body 22.0x15.0x7.8 mm)
pins: 1, 2

## 74457247
designator L?
SMD-Power Inductor WE-PD4, L = 470 µH; PartNumber: 74457247; Inductance: 470 µH; DatasheetVersion: ver 1, Oct-2004; PackageReference: WE-PD4-XL; PackageDescription: SMD Inductor, 2-Leads, Body 22.0 x 15.0 mm; ComponentLink1Description: Manufacturer URL; ComponentLink1URL: http://www.we-online.com; ComponentLink2Description: Datasheet; ComponentLink2URL: http://www.we-online.de/katalog/media/pdf/74457247.pdf
footprint WE-PD4-XL (SMD Inductor, 2-Leads, Body 22.0x15.0x7.8 mm)
pins: 1, 2

## 74457256
designator L?
SMD-Power Inductor WE-PD4, L = 560 µH; PartNumber: 74457256; Inductance: 560 µH; DatasheetVersion: ver 1, Oct-2004; PackageReference: WE-PD4-XL; PackageDescription: SMD Inductor, 2-Leads, Body 22.0 x 15.0 mm; ComponentLink1Description: Manufacturer URL; ComponentLink1URL: http://www.we-online.com; ComponentLink2Description: Datasheet; ComponentLink2URL: http://www.we-online.de/katalog/media/pdf/74457256.pdf
footprint WE-PD4-XL (SMD Inductor, 2-Leads, Body 22.0x15.0x7.8 mm)
pins: 1, 2

## 74457268
designator L?
SMD-Power Inductor WE-PD4, L = 680 µH; PartNumber: 74457268; Inductance: 680 µH; DatasheetVersion: ver 1, Oct-2004; PackageReference: WE-PD4-XL; PackageDescription: SMD Inductor, 2-Leads, Body 22.0 x 15.0 mm; ComponentLink1Description: Manufacturer URL; ComponentLink1URL: http://www.we-online.com; ComponentLink2Description: Datasheet; ComponentLink2URL: http://www.we-online.de/katalog/media/pdf/74457268.pdf
footprint WE-PD4-XL (SMD Inductor, 2-Leads, Body 22.0x15.0x7.8 mm)
pins: 1, 2

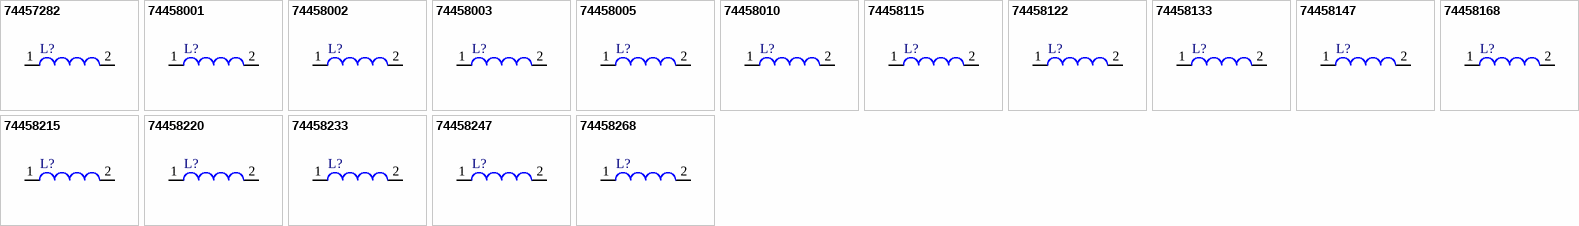
[diagram p2: symbols 74457282 to 74458268]

## 74457282
designator L?
SMD-Power Inductor WE-PD4, L = 820 µH; PartNumber: 74457282; Inductance: 820 µH; DatasheetVersion: ver 1, Oct-2004; PackageReference: WE-PD4-XL; PackageDescription: SMD Inductor, 2-Leads, Body 22.0 x 15.0 mm; ComponentLink1Description: Manufacturer URL; ComponentLink1URL: http://www.we-online.com; ComponentLink2Description: Datasheet; ComponentLink2URL: http://www.we-online.de/katalog/media/pdf/74457282.pdf
footprint WE-PD4-XL (SMD Inductor, 2-Leads, Body 22.0x15.0x7.8 mm)
pins: 1, 2

## 74458001
designator L?
SMD-Power Inductor WE-PD4, L = 1.00 µH; PartNumber: 74458001; Inductance: 1.00 µH; DatasheetVersion: ver 1, Oct-2004; PackageReference: WE-PD4-X; PackageDescription: SMD Inductor, 2-Leads, Body 18.54 x 15.24 mm; ComponentLink1Description: Manufacturer URL; ComponentLink1URL: http://www.we-online.com; ComponentLink2Description: Datasheet; ComponentLink2URL: http://www.we-online.de/katalog/media/pdf/74458001.pdf
footprint WE-PD4-X (SMD Inductor, 2-Leads, Body 18.54x15.24x7.11 mm)
pins: 1, 2

## 74458002
designator L?
SMD-Power Inductor WE-PD4, L = 2.20 µH; PartNumber: 74458002; Inductance: 2.20 µH; DatasheetVersion: ver 1, Oct-2004; PackageReference: WE-PD4-X; PackageDescription: SMD Inductor, 2-Leads, Body 18.54 x 15.24 mm; ComponentLink1Description: Manufacturer URL; ComponentLink1URL: http://www.we-online.com; ComponentLink2Description: Datasheet; ComponentLink2URL: http://www.we-online.de/katalog/media/pdf/74458002.pdf
footprint WE-PD4-X (SMD Inductor, 2-Leads, Body 18.54x15.24x7.11 mm)
pins: 1, 2

## 74458003
designator L?
SMD-Power Inductor WE-PD4, L = 3.30 µH; PartNumber: 74458003; Inductance: 3.30 µH; DatasheetVersion: ver 1, Oct-2004; PackageReference: WE-PD4-X; PackageDescription: SMD Inductor, 2-Leads, Body 18.54 x 15.24 mm; ComponentLink1Description: Manufacturer URL; ComponentLink1URL: http://www.we-online.com; ComponentLink2Description: Datasheet; ComponentLink2URL: http://www.we-online.de/katalog/media/pdf/74458003.pdf
footprint WE-PD4-X (SMD Inductor, 2-Leads, Body 18.54x15.24x7.11 mm)
pins: 1, 2

## 74458005
designator L?
SMD-Power Inductor WE-PD4, L = 5.60 µH; PartNumber: 74458005; Inductance: 5.60 µH; DatasheetVersion: ver 1, Oct-2004; PackageReference: WE-PD4-X; PackageDescription: SMD Inductor, 2-Leads, Body 18.54 x 15.24 mm; ComponentLink1Description: Manufacturer URL; ComponentLink1URL: http://www.we-online.com; ComponentLink2Description: Datasheet; ComponentLink2URL: http://www.we-online.de/katalog/media/pdf/74458005.pdf
footprint WE-PD4-X (SMD Inductor, 2-Leads, Body 18.54x15.24x7.11 mm)
pins: 1, 2

## 74458010
designator L?
SMD-Power Inductor WE-PD4, L = 10.0 µH; PartNumber: 74458010; Inductance: 10.0 µH; DatasheetVersion: ver 1, Oct-2004; PackageReference: WE-PD4-X; PackageDescription: SMD Inductor, 2-Leads, Body 18.54 x 15.24 mm; ComponentLink1Description: Manufacturer URL; ComponentLink1URL: http://www.we-online.com; ComponentLink2Description: Datasheet; ComponentLink2URL: http://www.we-online.de/katalog/media/pdf/74458010.pdf
footprint WE-PD4-X (SMD Inductor, 2-Leads, Body 18.54x15.24x7.11 mm)
pins: 1, 2

## 74458115
designator L?
SMD-Power Inductor WE-PD4, L = 15.0 µH; PartNumber: 74458115; Inductance: 15.0 µH; DatasheetVersion: ver 1, Oct-2004; PackageReference: WE-PD4-X; PackageDescription: SMD Inductor, 2-Leads, Body 18.54 x 15.24 mm; ComponentLink1Description: Manufacturer URL; ComponentLink1URL: http://www.we-online.com; ComponentLink2Description: Datasheet; ComponentLink2URL: http://www.we-online.de/katalog/media/pdf/74458115.pdf
footprint WE-PD4-X (SMD Inductor, 2-Leads, Body 18.54x15.24x7.11 mm)
pins: 1, 2

## 74458122
designator L?
SMD-Power Inductor WE-PD4, L = 22.0 µH; PartNumber: 74458122; Inductance: 22.0 µH; DatasheetVersion: ver 1, Oct-2004; PackageReference: WE-PD4-X; PackageDescription: SMD Inductor, 2-Leads, Body 18.54 x 15.24 mm; ComponentLink1Description: Manufacturer URL; ComponentLink1URL: http://www.we-online.com; ComponentLink2Description: Datasheet; ComponentLink2URL: http://www.we-online.de/katalog/media/pdf/74458122.pdf
footprint WE-PD4-X (SMD Inductor, 2-Leads, Body 18.54x15.24x7.11 mm)
pins: 1, 2

## 74458133
designator L?
SMD-Power Inductor WE-PD4, L = 33.0 µH; PartNumber: 74458133; Inductance: 33.0 µH; DatasheetVersion: ver 1, Oct-2004; PackageReference: WE-PD4-X; PackageDescription: SMD Inductor, 2-Leads, Body 18.54 x 15.24 mm; ComponentLink1Description: Manufacturer URL; ComponentLink1URL: http://www.we-online.com; ComponentLink2Description: Datasheet; ComponentLink2URL: http://www.we-online.de/katalog/media/pdf/74458133.pdf
footprint WE-PD4-X (SMD Inductor, 2-Leads, Body 18.54x15.24x7.11 mm)
pins: 1, 2

## 74458147
designator L?
SMD-Power Inductor WE-PD4, L = 47.0 µH; PartNumber: 74458147; Inductance: 47.0 µH; DatasheetVersion: ver 1, Oct-2004; PackageReference: WE-PD4-X; PackageDescription: SMD Inductor, 2-Leads, Body 18.54 x 15.24 mm; ComponentLink1Description: Manufacturer URL; ComponentLink1URL: http://www.we-online.com; ComponentLink2Description: Datasheet; ComponentLink2URL: http://www.we-online.de/katalog/media/pdf/74458147.pdf
footprint WE-PD4-X (SMD Inductor, 2-Leads, Body 18.54x15.24x7.11 mm)
pins: 1, 2

## 74458168
designator L?
SMD-Power Inductor WE-PD4, L = 68.0 µH; PartNumber: 74458168; Inductance: 68.0 µH; DatasheetVersion: ver 1, Oct-2004; PackageReference: WE-PD4-X; PackageDescription: SMD Inductor, 2-Leads, Body 18.54 x 15.24 mm; ComponentLink1Description: Manufacturer URL; ComponentLink1URL: http://www.we-online.com; ComponentLink2Description: Datasheet; ComponentLink2URL: http://www.we-online.de/katalog/media/pdf/74458168.pdf
footprint WE-PD4-X (SMD Inductor, 2-Leads, Body 18.54x15.24x7.11 mm)
pins: 1, 2

## 74458215
designator L?
SMD-Power Inductor WE-PD4, L = 150 µH; PartNumber: 74458215; Inductance: 150 µH; DatasheetVersion: ver 1, Oct-2004; PackageReference: WE-PD4-X; PackageDescription: SMD Inductor, 2-Leads, Body 18.54 x 15.24 mm; ComponentLink1Description: Manufacturer URL; ComponentLink1URL: http://www.we-online.com; ComponentLink2Description: Datasheet; ComponentLink2URL: http://www.we-online.de/katalog/media/pdf/74458215.pdf
footprint WE-PD4-X (SMD Inductor, 2-Leads, Body 18.54x15.24x7.11 mm)
pins: 1, 2

## 74458220
designator L?
SMD-Power Inductor WE-PD4, L = 220 µH; PartNumber: 74458220; Inductance: 220 µH; DatasheetVersion: ver 1, Oct-2004; PackageReference: WE-PD4-X; PackageDescription: SMD Inductor, 2-Leads, Body 18.54 x 15.24 mm; ComponentLink1Description: Manufacturer URL; ComponentLink1URL: http://www.we-online.com; ComponentLink2Description: Datasheet; ComponentLink2URL: http://www.we-online.de/katalog/media/pdf/74458220.pdf
footprint WE-PD4-X (SMD Inductor, 2-Leads, Body 18.54x15.24x7.11 mm)
pins: 1, 2

## 74458233
designator L?
SMD-Power Inductor WE-PD4, L = 330 µH; PartNumber: 74458233; Inductance: 330 µH; DatasheetVersion: ver 1, Oct-2004; PackageReference: WE-PD4-X; PackageDescription: SMD Inductor, 2-Leads, Body 18.54 x 15.24 mm; ComponentLink1Description: Manufacturer URL; ComponentLink1URL: http://www.we-online.com; ComponentLink2Description: Datasheet; ComponentLink2URL: http://www.we-online.de/katalog/media/pdf/74458233.pdf
footprint WE-PD4-X (SMD Inductor, 2-Leads, Body 18.54x15.24x7.11 mm)
pins: 1, 2

## 74458247
designator L?
SMD-Power Inductor WE-PD4, L = 470 µH; PartNumber: 74458247; Inductance: 470 µH; DatasheetVersion: ver 1, Oct-2004; PackageReference: WE-PD4-X; PackageDescription: SMD Inductor, 2-Leads, Body 18.54 x 15.24 mm; ComponentLink1Description: Manufacturer URL; ComponentLink1URL: http://www.we-online.com; ComponentLink2Description: Datasheet; ComponentLink2URL: http://www.we-online.de/katalog/media/pdf/74458247.pdf
footprint WE-PD4-X (SMD Inductor, 2-Leads, Body 18.54x15.24x7.11 mm)
pins: 1, 2

## 74458268
designator L?
SMD-Power Inductor WE-PD4, L = 680 µH; PartNumber: 74458268; Inductance: 680 µH; DatasheetVersion: ver 1, Oct-2004; PackageReference: WE-PD4-X; PackageDescription: SMD Inductor, 2-Leads, Body 18.54 x 15.24 mm; ComponentLink1Description: Manufacturer URL; ComponentLink1URL: http://www.we-online.com; ComponentLink2Description: Datasheet; ComponentLink2URL: http://www.we-online.de/katalog/media/pdf/74458268.pdf
footprint WE-PD4-X (SMD Inductor, 2-Leads, Body 18.54x15.24x7.11 mm)
pins: 1, 2